# EAGLE library part ADS7953 (library packages(ti))
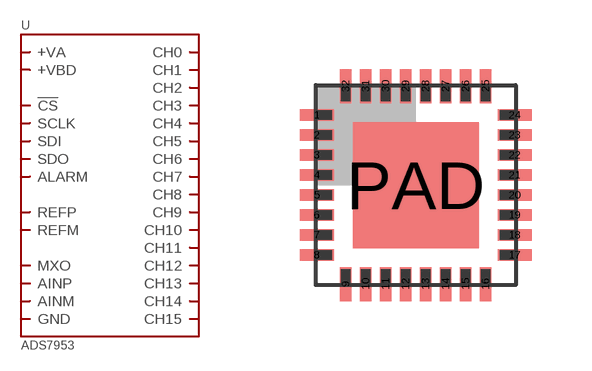
[diagram p11: symbol with the pads of RHB.32; footprint RHB.32]

Designator prefix U

## ADS7953.RHB  [RHB.32]
1  GND
2  MXO
3  AINP
4  AINM
5  CH15
6  CH14
7  CH13
8  CH12
9  CH11
10  CH10
11  CH9
12  CH8
13  CH7
14  CH6
15  CH5
16  CH4
17  CH3
18  CH2
19  CH1
20  CH0
21  +VA
22  GND
23  !CS
24  SCLK
25  SDI
26  SDO
27  GND
28  +VBD
29  ALARM
30  REFM
31  REFP
32  +VA
PAD  GND

## Footprint RHB.32 (pad centres in mm)
smd 0.85 x 0.28: 1 -2.475,1.75; 2 -2.475,1.25; 3 -2.475,0.75; 4 -2.475,0.25; 5 -2.475,-0.25; 6 -2.475,-0.75; 7 -2.475,-1.25; 8 -2.475,-1.75; 17 2.475,-1.75; 18 2.475,-1.25; 19 2.475,-0.75; 20 2.475,-0.25; 21 2.475,0.25; 22 2.475,0.75; 23 2.475,1.25; 24 2.475,1.75
smd 0.28 x 0.85: 9 -1.75,-2.475; 10 -1.25,-2.475; 11 -0.75,-2.475; 12 -0.25,-2.475; 13 0.25,-2.475; 14 0.75,-2.475; 15 1.25,-2.475; 16 1.75,-2.475; 25 1.75,2.475; 26 1.25,2.475; 27 0.75,2.475; 28 0.25,2.475; 29 -0.25,2.475; 30 -0.75,2.475; 31 -1.25,2.475; 32 -1.75,2.475
smd 3.15 x 3.15: PAD 0,0